# Altium schematic symbol library AG.MCU.SchLib: 24 symbols
Pins are listed as number, name and electrical type; pins without a type are passive.

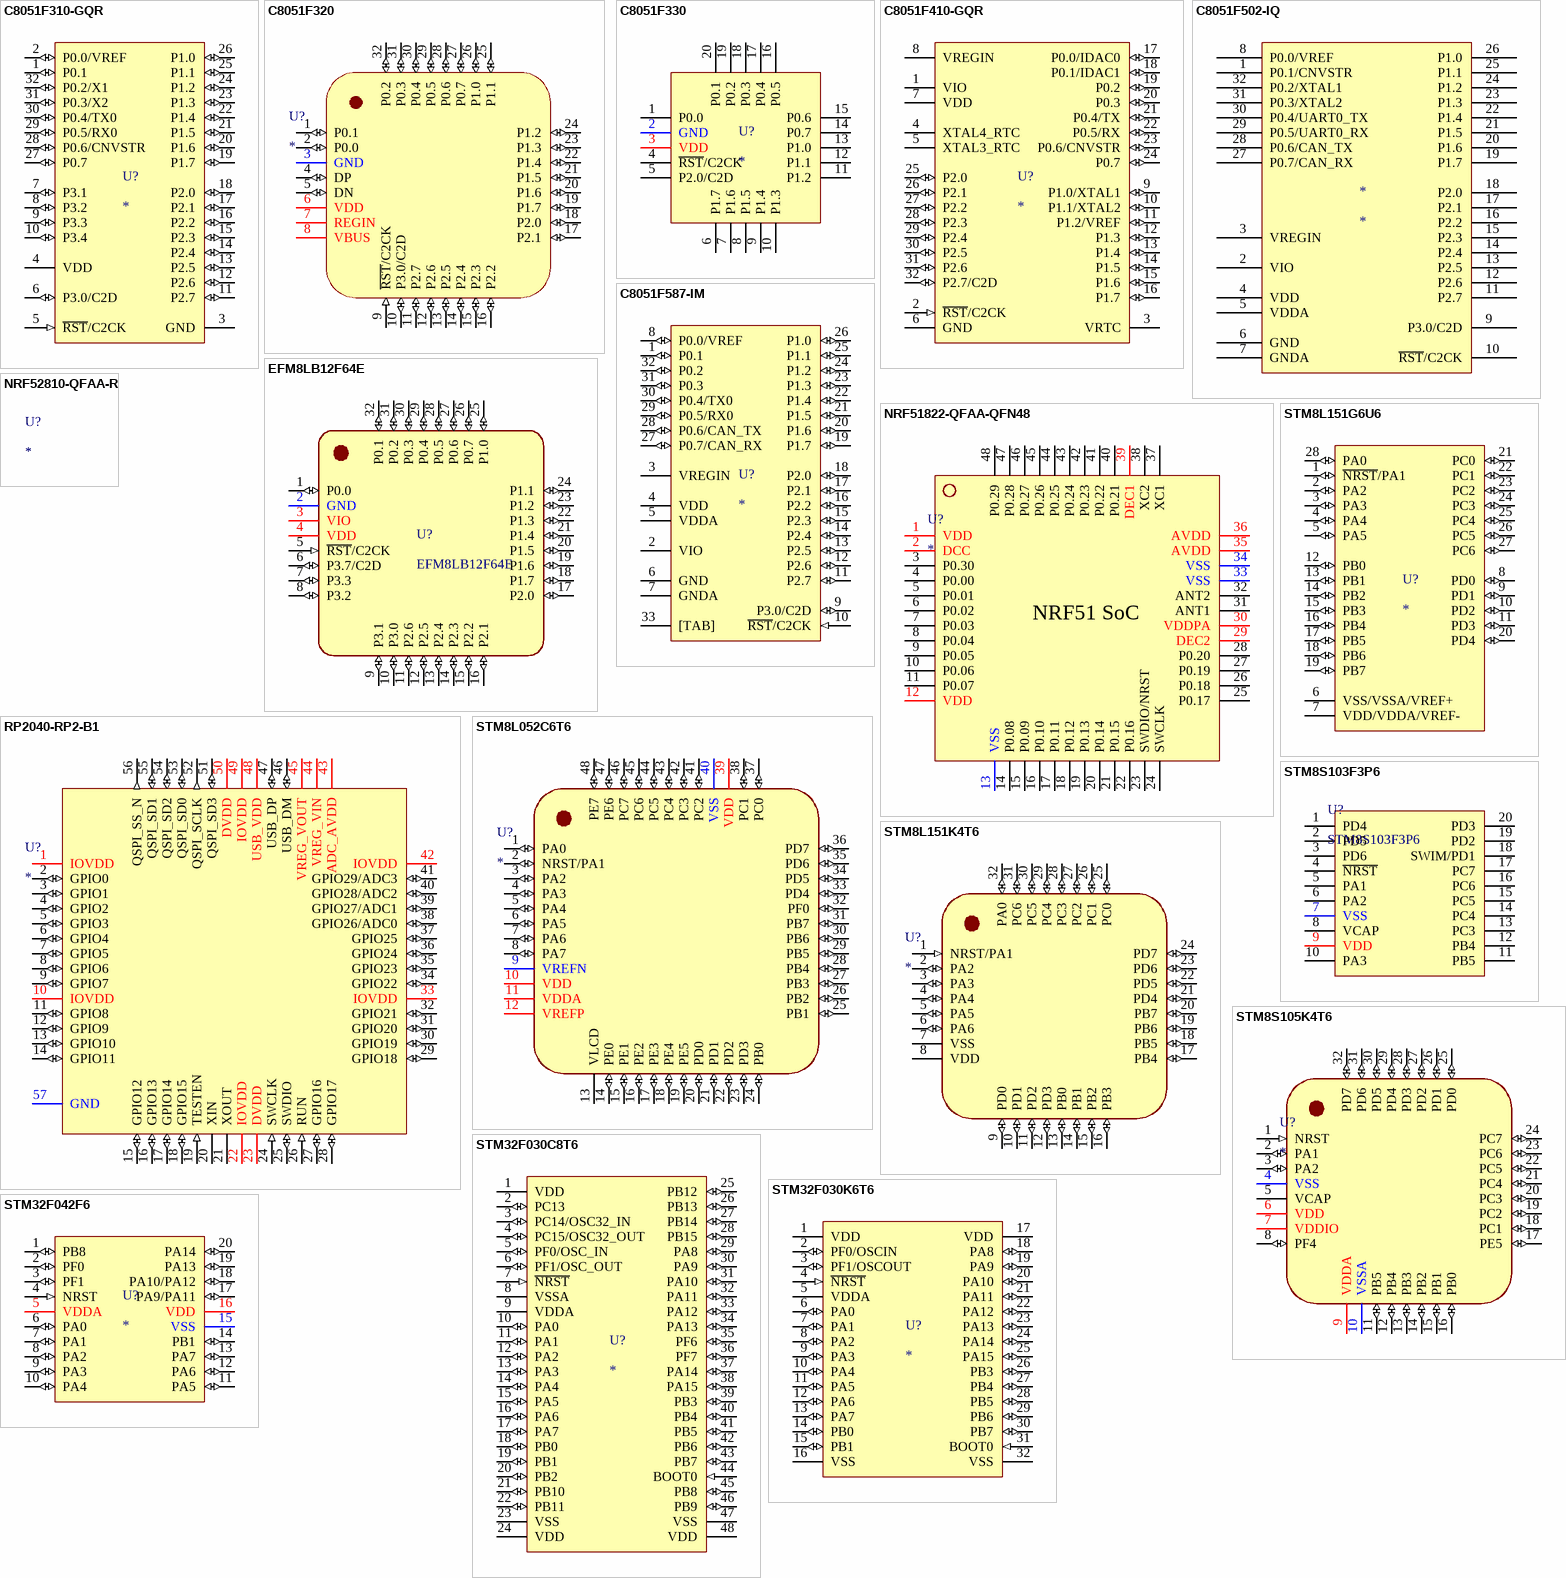
[diagram p0: symbols C8051F310-GQR to STM32F042F6]

## C8051F310-GQR
designator U?
Микроконтроллер 8-Бит, 8051, Mixed-Signal, 25МГц, 16КБ (16Кx8) Flash, 10-Бит АЦП, 29 I/O [LQFP-32]
pins: 1 P0.1 (io), 2 P0.0/VREF (io), 3 GND (power), 4 VDD (power), 5 ~{RST}/C2CK (in), 6 P3.0/C2D (io), 7 P3.1 (io), 8 P3.2 (io), 9 P3.3 (io), 10 P3.4 (io), 11 P2.7 (io), 12 P2.6 (io), 13 P2.5 (io), 14 P2.4 (io), 15 P2.3 (io), 16 P2.2 (io), 17 P2.1 (io), 18 P2.0 (io), 19 P1.7 (io), 20 P1.6 (io), 21 P1.5 (io), 22 P1.4 (io), 23 P1.3 (io), 24 P1.2 (io), 25 P1.1 (io), 26 P1.0 (io), 27 P0.7 (io), 28 P0.6/CNVSTR (io), 29 P0.5/RX0 (io), 30 P0.4/TX0 (io), 31 P0.3/X2 (io), 32 P0.2/X1 (io)

## C8051F320
designator U?
IC MCU 8BIT 16KB FLASH 32LQFP; Manufacturer: Silicon Labs; Manufacturer Part No: C8051F320-GQR; Mounting Technology: SMT; Package: LQFP-32; Supplier: DigiKey; Supplier Link: https://www.digikey.com/en/products/detail/silicon-labs/C8051F320-GQR/990799; Supplier Part No: C8051F320-GQRCT-ND; Alternative Supplier: Chipdip; Alternative Supplier Link: https://www.chipdip.by/product/c8051f320-gqr; Alternative Supplier Part No: 1108753860
footprint LQFP-32
pins: 1 P0.1 (io), 2 P0.0 (io), 3 GND (power), 4 DP (io), 5 DN (io), 6 VDD (power), 7 REGIN (power), 8 VBUS (power), 9 ~{RST}/C2CK (in), 10 P3.0/C2D (io), 11 P2.7 (io), 12 P2.6 (io), 13 P2.5 (io), 14 P2.4 (io), 15 P2.3 (io), 16 P2.2 (io), 17 P2.1 (io), 18 P2.0 (io), 19 P1.7 (io), 20 P1.6 (io), 21 P1.5 (io), 22 P1.4 (io), 23 P1.3 (io), 24 P1.2 (io), 25 P1.1 (io), 26 P1.0 (io), 27 P0.7 (io), 28 P0.6 (io), 29 P0.5 (io), 30 P0.4 (io), 31 P0.3 (io), 32 P0.2 (io)

## C8051F330
designator U?
pins: 1 P0.0, 2 GND, 3 VDD, 4 ~{RST}/C2CK, 5 P2.0/C2D, 6 P1.7, 7 P1.6, 8 P1.5, 9 P1.4, 10 P1.3, 11 P1.2, 12 P1.1, 13 P1.0, 14 P0.7, 15 P0.6, 16 P0.5, 17 P0.4, 18 P0.3, 19 P0.2, 20 P0.1

## C8051F410-GQR
designator U?
Микроконтроллер 8-Бит, 8051, 50МГц, 32КБ (32Кx8) Flash, smaRTClock, 12-Бит АЦП, 24 I/O [LQFP-32]
pins: 1 VIO (power), 2 ~{RST}/C2CK (in), 3 VRTC (power), 4 XTAL4_RTC, 5 XTAL3_RTC, 6 GND (power), 7 VDD (power), 8 VREGIN (power), 9 P1.0/XTAL1 (io), 10 P1.1/XTAL2 (io), 11 P1.2/VREF (io), 12 P1.3 (io), 13 P1.4 (io), 14 P1.5 (io), 15 P1.6 (io), 16 P1.7 (io), 17 P0.0/IDAC0 (io), 18 P0.1/IDAC1 (io), 19 P0.2 (io), 20 P0.3 (io), 21 P0.4/TX (io), 22 P0.5/RX (io), 23 P0.6/CNVSTR (io), 24 P0.7 (io), 25 P2.0 (io), 26 P2.1 (io), 27 P2.2 (io), 28 P2.3 (io), 29 P2.4 (io), 30 P2.5 (io), 31 P2.6 (io), 32 P2.7/C2D (io)

## C8051F502-IQ
designator *
pins: 1 P0.1/CNVSTR, 2 VIO, 3 VREGIN, 4 VDD, 5 VDDA, 6 GND, 7 GNDA, 8 P0.0/VREF, 9 P3.0/C2D, 10 ~{RST}/C2CK, 11 P2.7, 12 P2.6, 13 P2.5, 14 P2.4, 15 P2.3, 16 P2.2, 17 P2.1, 18 P2.0, 19 P1.7, 20 P1.6, 21 P1.5, 22 P1.4, 23 P1.3, 24 P1.2, 25 P1.1, 26 P1.0, 27 P0.7/CAN_RX, 28 P0.6/CAN_TX, 29 P0.5/UART0_RX, 30 P0.4/UART0_TX, 31 P0.3/XTAL2, 32 P0.2/XTAL1

## C8051F587-IM
designator U?
QFN32
pins: 1 P0.1 (io), 2 VIO (power), 3 VREGIN (power), 4 VDD (power), 5 VDDA (power), 6 GND (power), 7 GNDA (power), 8 P0.0/VREF (io), 9 P3.0/C2D (io), 10 ~{RST}/C2CK (in), 11 P2.7 (io), 12 P2.6 (io), 13 P2.5 (io), 14 P2.4 (io), 15 P2.3 (io), 16 P2.2 (io), 17 P2.1 (io), 18 P2.0 (io), 19 P1.7 (io), 20 P1.6 (io), 21 P1.5 (io), 22 P1.4 (io), 23 P1.3 (io), 24 P1.2 (io), 25 P1.1 (io), 26 P1.0 (io), 27 P0.7/CAN_RX (io), 28 P0.6/CAN_TX (io), 29 P0.5/RX0 (io), 30 P0.4/TX0 (io), 31 P0.3 (io), 32 P0.2 (io), 33 [TAB] (power)

## EFM8LB12F64E
designator U?
IC MCU 8BIT 64KB FLASH 32QFP; Manufacturer Part No: EFM8LB12F64E-C-QFP32R; Manufacturer: Silicon Labs; Supplier Link: https://www.digikey.com/en/products/detail/silicon-labs/EFM8LB12F64E-C-QFP32R/9770974; Supplier Part No: 336-5843-1-ND; Supplier: DigiKey
pins: 1 P0.0 (io), 2 GND (power), 3 VIO (power), 4 VDD (power), 5 ~{RST}/C2CK (in), 6 P3.7/C2D (io), 7 P3.3 (io), 8 P3.2 (io), 9 P3.1 (io), 10 P3.0 (io), 11 P2.6 (io), 12 P2.5 (io), 13 P2.4 (io), 14 P2.3 (io), 15 P2.2 (io), 16 P2.1 (io), 17 P2.0 (io), 18 P1.7 (io), 19 P1.6 (io), 20 P1.5 (io), 21 P1.4 (io), 22 P1.3 (io), 23 P1.2 (io), 24 P1.1 (io), 25 P1.0 (io), 26 P0.7 (io), 27 P0.6 (io), 28 P0.5 (io), 29 P0.4 (io), 30 P0.3 (io), 31 P0.2 (io), 32 P0.1 (io)

## NRF51822-QFAA-QFN48
designator U?
pins: 1 VDD, 2 DCC, 3 P0.30, 4 P0.00, 5 P0.01, 6 P0.02, 7 P0.03, 8 P0.04, 9 P0.05, 10 P0.06, 11 P0.07, 12 VDD, 13 VSS, 14 P0.08, 15 P0.09, 16 P0.10, 17 P0.11, 18 P0.12, 19 P0.13, 20 P0.14, 21 P0.15, 22 P0.16, 23 SWDIO/NRST, 24 SWCLK, 25 P0.17, 26 P0.18, 27 P0.19, 28 P0.20, 29 DEC2, 30 VDDPA, 31 ANT1, 32 ANT2, 33 VSS, 34 VSS, 35 AVDD, 36 AVDD, 37 XC1, 38 XC2, 39 DEC1, 40 P0.21, 41 P0.22, 42 P0.23, 43 P0.24, 44 P0.25, 45 P0.26, 46 P0.27, 47 P0.28, 48 P0.29
text: NRF51 SoC

## NRF52810-QFAA-R
designator U?
IC RF TXRX+MCU BLUETOOTH 48VFQFN

## RP2040-RP2-B1
designator U?
IC MCU; Manufacturer: Raspberry Pi Foundation; Supplier: DigiKey; Package: VFQFN-56; Mounting Technology: SMT
footprint RP2040-QFN-56
pins: 1 IOVDD (power), 2 GPIO0 (io), 3 GPIO1 (io), 4 GPIO2 (io), 5 GPIO3 (io), 6 GPIO4 (io), 7 GPIO5 (io), 8 GPIO6 (io), 9 GPIO7 (io), 10 IOVDD (power), 11 GPIO8 (io), 12 GPIO9 (io), 13 GPIO10 (io), 14 GPIO11 (io), 15 GPIO12 (io), 16 GPIO13 (io), 17 GPIO14 (io), 18 GPIO15 (io), 19 TESTEN (in), 20 XIN, 21 XOUT, 22 IOVDD (power), 23 DVDD (power), 24 SWCLK (in), 25 SWDIO (io), 26 RUN (in), 27 GPIO16 (io), 28 GPIO17 (io), 29 GPIO18 (io), 30 GPIO19 (io), 31 GPIO20 (io), 32 GPIO21 (io), 33 IOVDD (power), 34 GPIO22 (io), 35 GPIO23 (io), 36 GPIO24 (io), 37 GPIO25 (io), 38 GPIO26/ADC0 (io), 39 GPIO27/ADC1 (io), 40 GPIO28/ADC2 (io), 41 GPIO29/ADC3 (io), 42 IOVDD (power), 43 ADC_AVDD (power), 44 VREG_VIN (power), 45 VREG_VOUT (power), 46 USB_DM (io), 47 USB_DP (io), 48 USB_VDD (power), 49 IOVDD (power), 50 DVDD (power), 51 QSPI_SD3 (io), 52 QSPI_SCLK (out), 53 QSPI_SD0 (io), 54 QSPI_SD2 (io), 55 QSPI_SD1 (io), 56 QSPI_SS_N (out), 57 GND (power)

## STM8L052C6T6
designator U?
IC MCU 8BIT 32KB FLASH 48LQFP; Manufacturer: STMicroelectronics; Manufacturer Product Number: STM8L052C6T6; Supplier: DigiKey; Supplier Link: https://www.digikey.com/en/products/detail/stmicroelectronics/STM8L052C6T6/3317784; Supplier Part No: 497-13041-ND; Package: LQFP-48; Mounting Technology: SMT
footprint ST_LQFP-48
pins: 1 PA0 (io), 2 NRST/PA1 (io), 3 PA2 (io), 4 PA3 (io), 5 PA4 (io), 6 PA5 (io), 7 PA6 (io), 8 PA7 (io), 9 VREFN (power), 10 VDD (power), 11 VDDA (power), 12 VREFP (power), 13 VLCD (power), 14 PE0 (io), 15 PE1 (io), 16 PE2 (io), 17 PE3 (io), 18 PE4 (io), 19 PE5 (io), 20 PD0 (io), 21 PD1 (io), 22 PD2 (io), 23 PD3 (io), 24 PB0 (io), 25 PB1 (io), 26 PB2 (io), 27 PB3 (io), 28 PB4 (io), 29 PB5 (io), 30 PB6 (io), 31 PB7 (io), 32 PF0 (io), 33 PD4 (io), 34 PD5 (io), 35 PD6 (io), 36 PD7 (io), 37 PC0 (io), 38 PC1 (io), 39 VDD (power), 40 VSS (power), 41 PC2 (io), 42 PC3 (io), 43 PC4 (io), 44 PC5 (io), 45 PC6 (io), 46 PC7 (io), 47 PE6 (io), 48 PE7 (io)

## STM8L151G6U6
designator U?
Ultra-low-power 8-bit MCU with 32 Kbytes Flash, 16 MHz CPU, integrated EEPROM
pins: 1 ~{NRST}/PA1 (io), 2 PA2 (io), 3 PA3 (io), 4 PA4 (io), 5 PA5 (io), 6 VSS/VSSA/VREF+ (power), 7 VDD/VDDA/VREF- (power), 8 PD0 (io), 9 PD1 (io), 10 PD2 (io), 11 PD3 (io), 12 PB0 (io), 13 PB1 (io), 14 PB2 (io), 15 PB3 (io), 16 PB4 (io), 17 PB5 (io), 18 PB6 (io), 19 PB7 (io), 20 PD4 (io), 21 PC0 (io), 22 PC1 (io), 23 PC2 (io), 24 PC3 (io), 25 PC4 (io), 26 PC5 (io), 27 PC6 (io), 28 PA0 (io)

## STM8L151K4T6
designator U?
IC MCU 8BIT 16KB FLASH 32LQFP; Manufacturer: STMicroelectronics; Manufacturer Product Number: STM8L151K4T6; Supplier: DigiKey; Supplier Link: https://www.digikey.com/en/products/detail/stmicroelectronics/STM8L151K4T6/2269725; Supplier Part No: 497-10515-ND; Package: LQFP-32; Mounting Technology: SMT
footprint LQFP-32
pins: 1 NRST/PA1 (in), 2 PA2 (io), 3 PA3 (io), 4 PA4 (io), 5 PA5 (io), 6 PA6 (io), 7 VSS (power), 8 VDD (power), 9 PD0 (io), 10 PD1 (io), 11 PD2 (io), 12 PD3 (io), 13 PB0 (io), 14 PB1 (io), 15 PB2 (io), 16 PB3 (io), 17 PB4 (io), 18 PB5 (io), 19 PB6 (io), 20 PB7 (io), 21 PD4 (io), 22 PD5 (io), 23 PD6 (io), 24 PD7 (io), 25 PC0 (io), 26 PC1 (io), 27 PC2 (io), 28 PC3 (io), 29 PC4 (io), 30 PC5 (io), 31 PC6 (io), 32 PA0 (io)

## STM8S103F3P6
designator U?
16 MHz MCU with 8 KB Flash, 1 KB SRAM, 640 bytes EEPROM, up to 16 GPIOs, 2.95 to 5.5 V operating voltage; Package: TSSOP-20; Mounting Type: SMD
pins: 1 PD4, 2 PD5, 3 PD6, 4 ~{NRST}, 5 PA1, 6 PA2, 7 VSS, 8 VCAP, 9 VDD, 10 PA3, 11 PB5, 12 PB4, 13 PC3, 14 PC4, 15 PC5, 16 PC6, 17 PC7, 18 SWIM/PD1, 19 PD2, 20 PD3
1 alternate drawing of the same symbol

## STM8S105K4T6
designator U?
IC MCU 8BIT 16KB FLASH 32LQFP; Alternative Supplier: Belchip; Alternative Supplier Link: https://belchip.by/product/?selected_product=19090; Alternative Supplier Part No: 19090; Mounting Technology: SMT; Package: LQFP-32; Supplier Part No: 497-19029-1-ND; Supplier: DigiKey; Supplier Link: https://www.digikey.com/en/products/detail/stmicroelectronics/STM8S105K4T6CTR/2214626; Category: IC/MCU
footprint LQFP-32
pins: 1 NRST (in), 2 PA1 (io), 3 PA2 (io), 4 VSS (power), 5 VCAP (power), 6 VDD (power), 7 VDDIO (power), 8 PF4 (io), 9 VDDA (power), 10 VSSA (power), 11 PB5 (io), 12 PB4 (io), 13 PB3 (io), 14 PB2 (io), 15 PB1 (io), 16 PB0 (io), 17 PE5 (io), 18 PC1 (io), 19 PC2 (io), 20 PC3 (io), 21 PC4 (io), 22 PC5 (io), 23 PC6 (io), 24 PC7 (io), 25 PD0 (io), 26 PD1 (io), 27 PD2 (io), 28 PD3 (io), 29 PD4 (io), 30 PD5 (io), 31 PD6 (io), 32 PD7 (io)

## STM32F030C8T6
designator U?
LQFP-48
pins: 1 VDD (power), 2 PC13 (io), 3 PC14/OSC32_IN (io), 4 PC15/OSC32_OUT (io), 5 PF0/OSC_IN (io), 6 PF1/OSC_OUT (io), 7 ~{NRST} (in), 8 VSSA (power), 9 VDDA (power), 10 PA0 (io), 11 PA1 (io), 12 PA2 (io), 13 PA3 (io), 14 PA4 (io), 15 PA5 (io), 16 PA6 (io), 17 PA7 (io), 18 PB0 (io), 19 PB1 (io), 20 PB2 (io), 21 PB10 (io), 22 PB11 (io), 23 VSS (power), 24 VDD (power), 25 PB12 (io), 26 PB13 (io), 27 PB14 (io), 28 PB15 (io), 29 PA8 (io), 30 PA9 (io), 31 PA10 (io), 32 PA11 (io), 33 PA12 (io), 34 PA13 (io), 35 PF6 (io), 36 PF7 (io), 37 PA14 (io), 38 PA15 (io), 39 PB3 (io), 40 PB4 (io), 41 PB5 (io), 42 PB6 (io), 43 PB7 (io), 44 BOOT0 (in), 45 PB8 (io), 46 PB9 (io), 47 VSS (power), 48 VDD (power)

## STM32F030K6T6
designator U?
pins: 1 VDD (power), 2 PF0/OSCIN (io), 3 PF1/OSCOUT (io), 4 ~{NRST} (in), 5 VDDA (power), 6 PA0 (io), 7 PA1 (io), 8 PA2 (io), 9 PA3 (io), 10 PA4 (io), 11 PA5 (io), 12 PA6 (io), 13 PA7 (io), 14 PB0 (io), 15 PB1 (io), 16 VSS (power), 17 VDD (power), 18 PA8 (io), 19 PA9 (io), 20 PA10 (io), 21 PA11 (io), 22 PA12 (io), 23 PA13 (io), 24 PA14 (io), 25 PA15 (io), 26 PB3 (io), 27 PB4 (io), 28 PB5 (io), 29 PB6 (io), 30 PB7 (io), 31 BOOT0 (in), 32 VSS (power)

## STM32F042F6
designator U?
IC MCU 32BIT 32KB FLASH 20TSSOP; Manufacturer: ST Microelectronics; Supplier: DigiKey; Mounting Technology: SMT; Package: TSSOP-20
pins: 1 PB8 (io), 2 PF0 (io), 3 PF1 (io), 4 NRST (in), 5 VDDA (power), 6 PA0 (io), 7 PA1 (io), 8 PA2 (io), 9 PA3 (io), 10 PA4 (io), 11 PA5 (io), 12 PA6 (io), 13 PA7 (io), 14 PB1 (io), 15 VSS (power), 16 VDD (power), 17 PA9/PA11 (io), 18 PA10/PA12 (io), 19 PA13 (io), 20 PA14 (io)

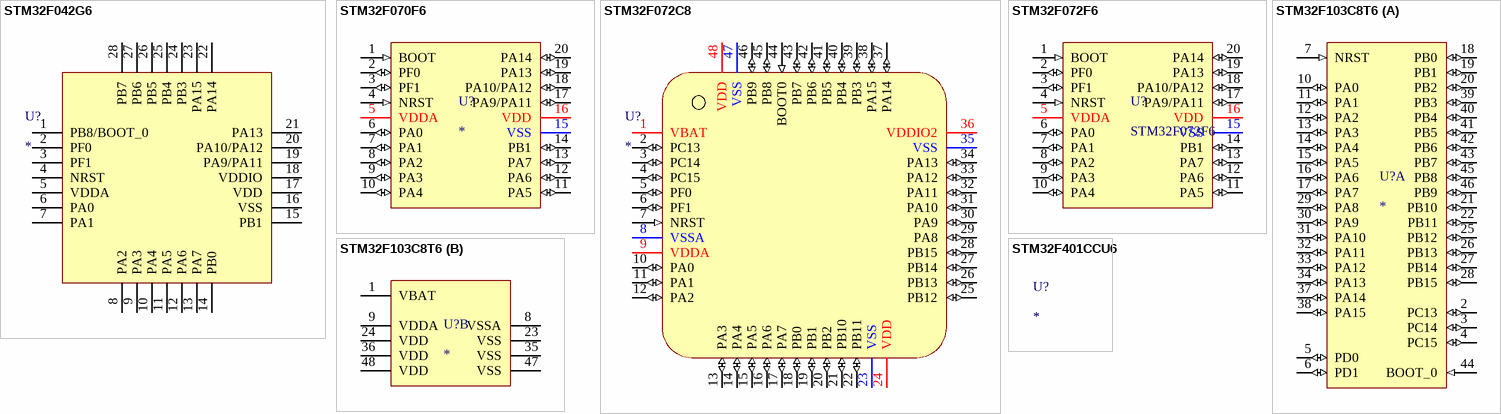
[diagram p1: symbols STM32F042G6 to STM32F401CCU6]

## STM32F042G6
designator U?
IC MCU; Package: UFQFPN28
pins: 1 PB8/BOOT_0, 2 PF0, 3 PF1, 4 NRST, 5 VDDA, 6 PA0, 7 PA1, 8 PA2, 9 PA3, 10 PA4, 11 PA5, 12 PA6, 13 PA7, 14 PB0, 15 PB1, 16 VSS, 17 VDD, 18 VDDIO, 19 PA9/PA11, 20 PA10/PA12, 21 PA13, 22 PA14, 23 PA15, 24 PB3, 25 PB4, 26 PB5, 27 PB6, 28 PB7

## STM32F070F6
designator U?
IC MCU 32BIT 32KB FLASH 20TSSOP; Manufacturer: STMicroelectronics; Product Number: STM32F070F6P6; Supplier: DigiKey; Supplier Part No: 497-17353-ND; Supplier URL: https://www.digikey.com/en/products/detail/stmicroelectronics/STM32F070F6P6/7313457; Mounting Technology: SMT; Package: TSSOP-20
footprint TSSOP-20 (STM32F07x: Dimensions from datasheet)
pins: 1 BOOT (in), 2 PF0 (io), 3 PF1 (io), 4 NRST (in), 5 VDDA (power), 6 PA0 (io), 7 PA1 (io), 8 PA2 (io), 9 PA3 (io), 10 PA4 (io), 11 PA5 (io), 12 PA6 (io), 13 PA7 (io), 14 PB1 (io), 15 VSS (power), 16 VDD (power), 17 PA9/PA11 (io), 18 PA10/PA12 (io), 19 PA13 (io), 20 PA14 (io)

## STM32F072C8
designator U?
IC MCU 32BIT 64KB FLASH 48LQFP; Manufacturer: ST Microelectronics; Product Number: STM32F072C8T6; Supplier Link: https://www.digikey.com/en/products/detail/stmicroelectronics/STM32F072C8T6/5051281; Supplier: DigiKey; Supplier Part No: 497-17358-ND; Mounting Type: SMT; Package: LQFP-48
footprint ST_LQFP-48
pins: 1 VBAT (power), 2 PC13 (io), 3 PC14 (io), 4 PC15 (io), 5 PF0 (io), 6 PF1 (io), 7 NRST (in), 8 VSSA (power), 9 VDDA (power), 10 PA0 (io), 11 PA1 (io), 12 PA2 (io), 13 PA3 (io), 14 PA4 (io), 15 PA5 (io), 16 PA6 (io), 17 PA7 (io), 18 PB0 (io), 19 PB1 (io), 20 PB2 (io), 21 PB10 (io), 22 PB11 (io), 23 VSS (power), 24 VDD (power), 25 PB12 (io), 26 PB13 (io), 27 PB14 (io), 28 PB15 (io), 29 PA8 (io), 30 PA9 (io), 31 PA10 (io), 32 PA11 (io), 33 PA12 (io), 34 PA13 (io), 35 VSS (power), 36 VDDIO2 (power), 37 PA14 (io), 38 PA15 (io), 39 PB3 (io), 40 PB4 (io), 41 PB5 (io), 42 PB6 (io), 43 PB7 (io), 44 BOOT0 (in), 45 PB8 (io), 46 PB9 (io), 47 VSS (power), 48 VDD (power)

## STM32F072F6
designator U?
IC MCU 32BIT 32KB FLASH 20TSSOP; PartNo: 497-17354-1-ND; ProductNumber: STM32F070F6P6TR; BaseProduct: STM32F07x; URL: https://www.digikey.com/en/products/detail/stmicroelectronics/STM32F070F6P6TR/7313047; Supplier: DigiKey; Package: TSSOP-20; VisibleName: STM32F072F6
pins: 1 BOOT (in), 2 PF0 (io), 3 PF1 (io), 4 NRST (in), 5 VDDA (power), 6 PA0 (io), 7 PA1 (io), 8 PA2 (io), 9 PA3 (io), 10 PA4 (io), 11 PA5 (io), 12 PA6 (io), 13 PA7 (io), 14 PB1 (io), 15 VSS (power), 16 VDD (power), 17 PA9/PA11 (io), 18 PA10/PA12 (io), 19 PA13 (io), 20 PA14 (io)

## STM32F103C8T6
designator U?
part A pins: 2 PC13 (io), 3 PC14 (io), 4 PC15 (io), 5 PD0 (io), 6 PD1 (io), 7 NRST (in), 10 PA0 (io), 11 PA1 (io), 12 PA2 (io), 13 PA3 (io), 14 PA4 (io), 15 PA5 (io), 16 PA6 (io), 17 PA7 (io), 18 PB0 (io), 19 PB1 (io), 20 PB2 (io), 21 PB10 (io), 22 PB11 (io), 25 PB12 (io), 26 PB13 (io), 27 PB14 (io), 28 PB15 (io), 29 PA8 (io), 30 PA9 (io), 31 PA10 (io), 32 PA11 (io), 33 PA12 (io), 34 PA13 (io), 37 PA14 (io), 38 PA15 (io), 39 PB3 (io), 40 PB4 (io), 41 PB5 (io), 42 PB6 (io), 43 PB7 (io), 44 BOOT_0 (in), 45 PB8 (io), 46 PB9 (io)
part B pins: 1 VBAT (power), 8 VSSA (power), 9 VDDA (power), 23 VSS (power), 24 VDD (power), 35 VSS (power), 36 VDD (power), 47 VSS (power), 48 VDD (power)

## STM32F401CCU6
designator U?
IC MCU 32BIT 256KB FLSH 48UFQFPN; Manufacturer: STMicroelectronics; Product Number: STM32F401CCU6; Mouting Technology: SMT; Supplier Link: https://www.digikey.com/en/products/detail/stmicroelectronics/STM32F401CCU6/4755971; Supplier: DigiKey; Supplier Part No: 497-17426-ND; Package: UFQFN-48 w/ Exposed Pad; Category: IC/Microcontroller